# Altium schematic symbol library RES,47k,1%,0.1W,0603.Schlib: 1 symbol
Pins are listed as number, name and electrical type; pins without a type are passive.

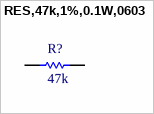
[diagram p0: symbol RES,47k,1%,0.1W,0603]

## RES,47k,1%,0.1W,0603
designator R?, comment 47k
47 kOhms ±1% 0.1W, 1/10W Chip Resistor 0603 (1608 Metric) Moisture Resistant Thick Film
pins: 1, 2